# EAGLE library part FT231XS (library chiptron_petus_cz)
FT231XS USB - full UART - SSOP20
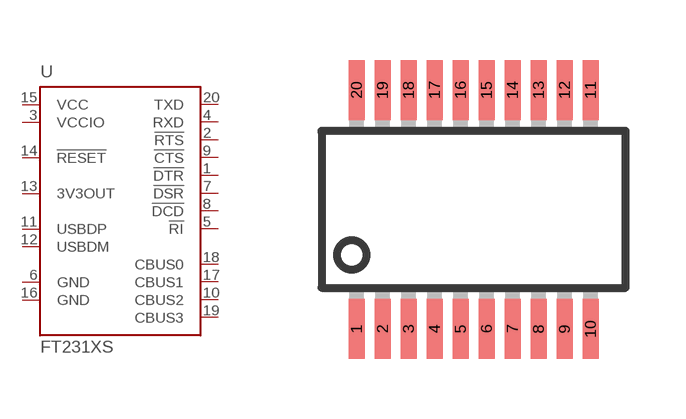
[diagram p8: symbol with the pads of SSOP20; footprint SSOP20]

Designator prefix -

## FT231XS  [SSOP20]
1  !DTR  out
2  !RTS  out
3  VCCIO  pwr
4  RXD  in
5  !RI  in
6  GND  pwr
7  !DSR  in
8  !DCD  in
9  !CTS  in
10  CBUS2
11  USBDP
12  USBDM
13  3V3OUT  out
14  !RESET  in
15  VCC  pwr
16  GND  pwr
17  CBUS1
18  CBUS0
19  CBUS3
20  TXD  out

## Footprint SSOP20 (pad centres in mm)
smd 0.4 x 1.5: 1 -2.925,-3.625; 2 -2.275,-3.625; 3 -1.625,-3.625; 4 -0.975,-3.625; 5 -0.325,-3.625; 6 0.325,-3.625; 7 0.975,-3.625; 8 1.625,-3.625; 9 2.275,-3.625; 10 2.925,-3.625; 11 2.925,2.355; 12 2.275,2.355; 13 1.625,2.355; 14 0.975,2.355; 15 0.325,2.355; 16 -0.325,2.355; 17 -0.975,2.355; 18 -1.625,2.355; 19 -2.275,2.355; 20 -2.925,2.355